# Altium integrated library 1-640452-4.IntLib: 1 symbol
Pins are listed as number, name and electrical type; pins without a type are passive.

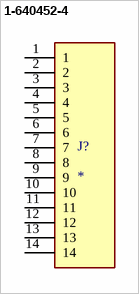
[diagram p0: symbol 1-640452-4]

## 1-640452-4
designator J?
MP: 1-640452-4; Package: None; Price: None; Value: *; Availability: Unavailable
footprint TE_1-640452-4
pins: 1, 2, 3, 4, 5, 6, 7, 8, 9, 10, 11, 12, 13, 14